# EAGLE library part TL082CDR (library TL082CDR)
Check availability <https://pricing.snapeda.com/parts/TL082CDR/Texas%20Instruments/view-part?ref=eda>
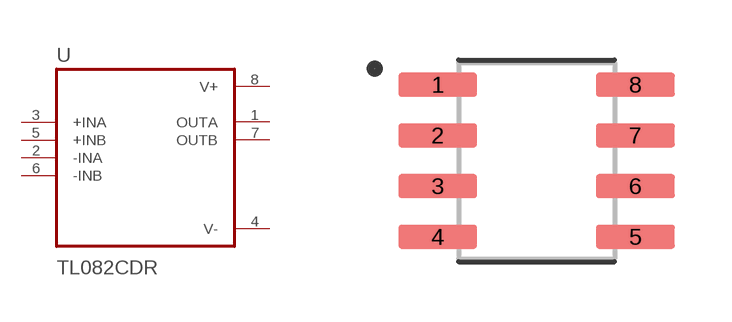
[diagram p0: symbol with the pads of SOIC127P599X175-8N; footprint SOIC127P599X175-8N]

Designator prefix U

## TL082CDR (Availability: In Stock; Check_prices: https://www.snapeda.com/parts/TL082CDR/Texas+Instruments/view-part/?ref=eda; Description: Dual, 30-V, 3-MHz, 13-V/µs slew rate, In to V+, JFET-input op amp; MF: Texas Instruments; MP: TL082CDR; Package: SOIC-8 Texas Instruments; Price: None; Purchase-URL: https://www.snapeda.com/api/url_track_click_mouser/?unipart_id=1040906&manufacturer=Texas Instruments&part_name=TL082CDR&search_term=tl082; SnapEDA_Link: https://www.snapeda.com/parts/TL082CDR/Texas+Instruments/view-part/?ref=snap)  [SOIC127P599X175-8N]
1  OUTA  out
2  -INA  in
3  +INA  in
4  V-  pwr
5  +INB  in
6  -INB  in
7  OUTB  out
8  V+  pwr

## Footprint SOIC127P599X175-8N (pad centres in mm)
smd 1.97 x 0.6: 1 -2.47,1.905; 2 -2.47,0.635; 3 -2.47,-0.635; 4 -2.47,-1.905; 5 2.47,-1.905; 6 2.47,-0.635; 7 2.47,0.635; 8 2.47,1.905